# Altium schematic symbol library SCH - SWITCH - CANDK JS202011SCQN.SCHLIB: 1 symbol
Pins are listed as number, name and electrical type; pins without a type are passive.

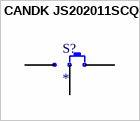
[diagram p0: symbol CANDK JS202011SCQN]

## CANDK JS202011SCQN
designator S?
pins: 1, 2 COM, 3, 4, 5 COM, 6 1